# Altium schematic symbol library SP_BLE_EM.SchLib: 2 symbols
Pins are listed as number, name and electrical type; pins without a type are passive.

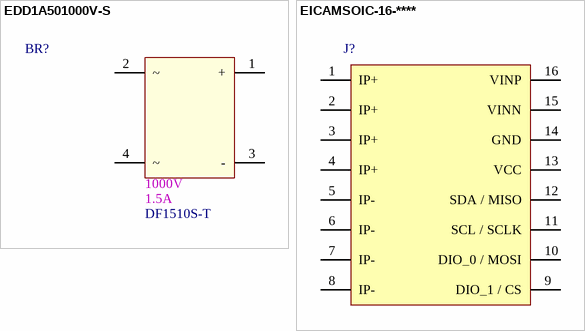
[diagram p0: symbols EDD1A501000V-S to EICAMSOIC-16-****]

## EDD1A501000V-S
designator BR?, comment value DF1510S-T  1st Auxiliary Field: 1000V  2nd Auxiliary Field: 1.5A  (hidden comment: BRIDGE RECT 1PHASE 1KV 1.5A DF-S)
Internal Part Number: EDD1A501000V-S; Manufacturer: Diodes Incorporated; Vendor Part Number: DF1510SDICT-ND; 3rd Auxiliary Field: ROHS3 Compliant; Component Height (mm): 2.6mm; Vendor Name: Digi-Key; 4th Auxiliary Field: *; Manufacturer Part Number: DF1510S-T; Part Type: BRIDGE RECT 1PHASE 1KV 1.5A DF-S; Temp Co: *
footprint BR_DF1510S-T (BRIDGE RECT 1PHASE 1KV 1.5A DF-S)
pins: 1 +, 2 ~ (power), 3 -, 4 ~

## EICAMSOIC-16-****
designator J?, comment SINGLE PHASE, ISOLATED, POWER MO  (value not drawn)
Internal Part Number: EICAMSOIC-16-****; Manufacturer: Allegro MicroSystems; Vendor Part Number: 620-1998-1-ND; 1st Auxiliary Field: 3.3V; 2nd Auxiliary Field: 12mA; 3rd Auxiliary Field: ROHS3 Compliant; Component Height (mm): 2.65mm; Temp Co: -40°C ~ 125°C; Value: ACS71020KMABTR-090B3-I2C; Vendor Name: Digi-Key; Part Type: SINGLE PHASE, ISOLATED, POWER MO
footprint SOIC127P1030X265-16N (SOIC, 16-Leads, Body 10.30x7.50mm, Pitch 1.27mm, IPC Medium Density)
pins: 1 IP+, 2 IP+, 3 IP+, 4 IP+, 5 IP-, 6 IP-, 7 IP-, 8 IP-, 9 DIO_1 / CS, 10 DIO_0 / MOSI, 11 SCL / SCLK, 12  SDA / MISO, 13 VCC, 14 GND, 15 VINN, 16 VINP